# Altium footprint library KN2CLib.PcbLib: 142 footprints (part 6 of 9)
Each footprint in its own frame and in the unit in brackets; x right, y up, seen from the top. Pads: shape width x height; smd on the part's side, far side on the other; paste and mask are expansions set on the pad; w line width, h text height; cw(c..) or ccw(c..) is an arc to the next point about the centre after c.
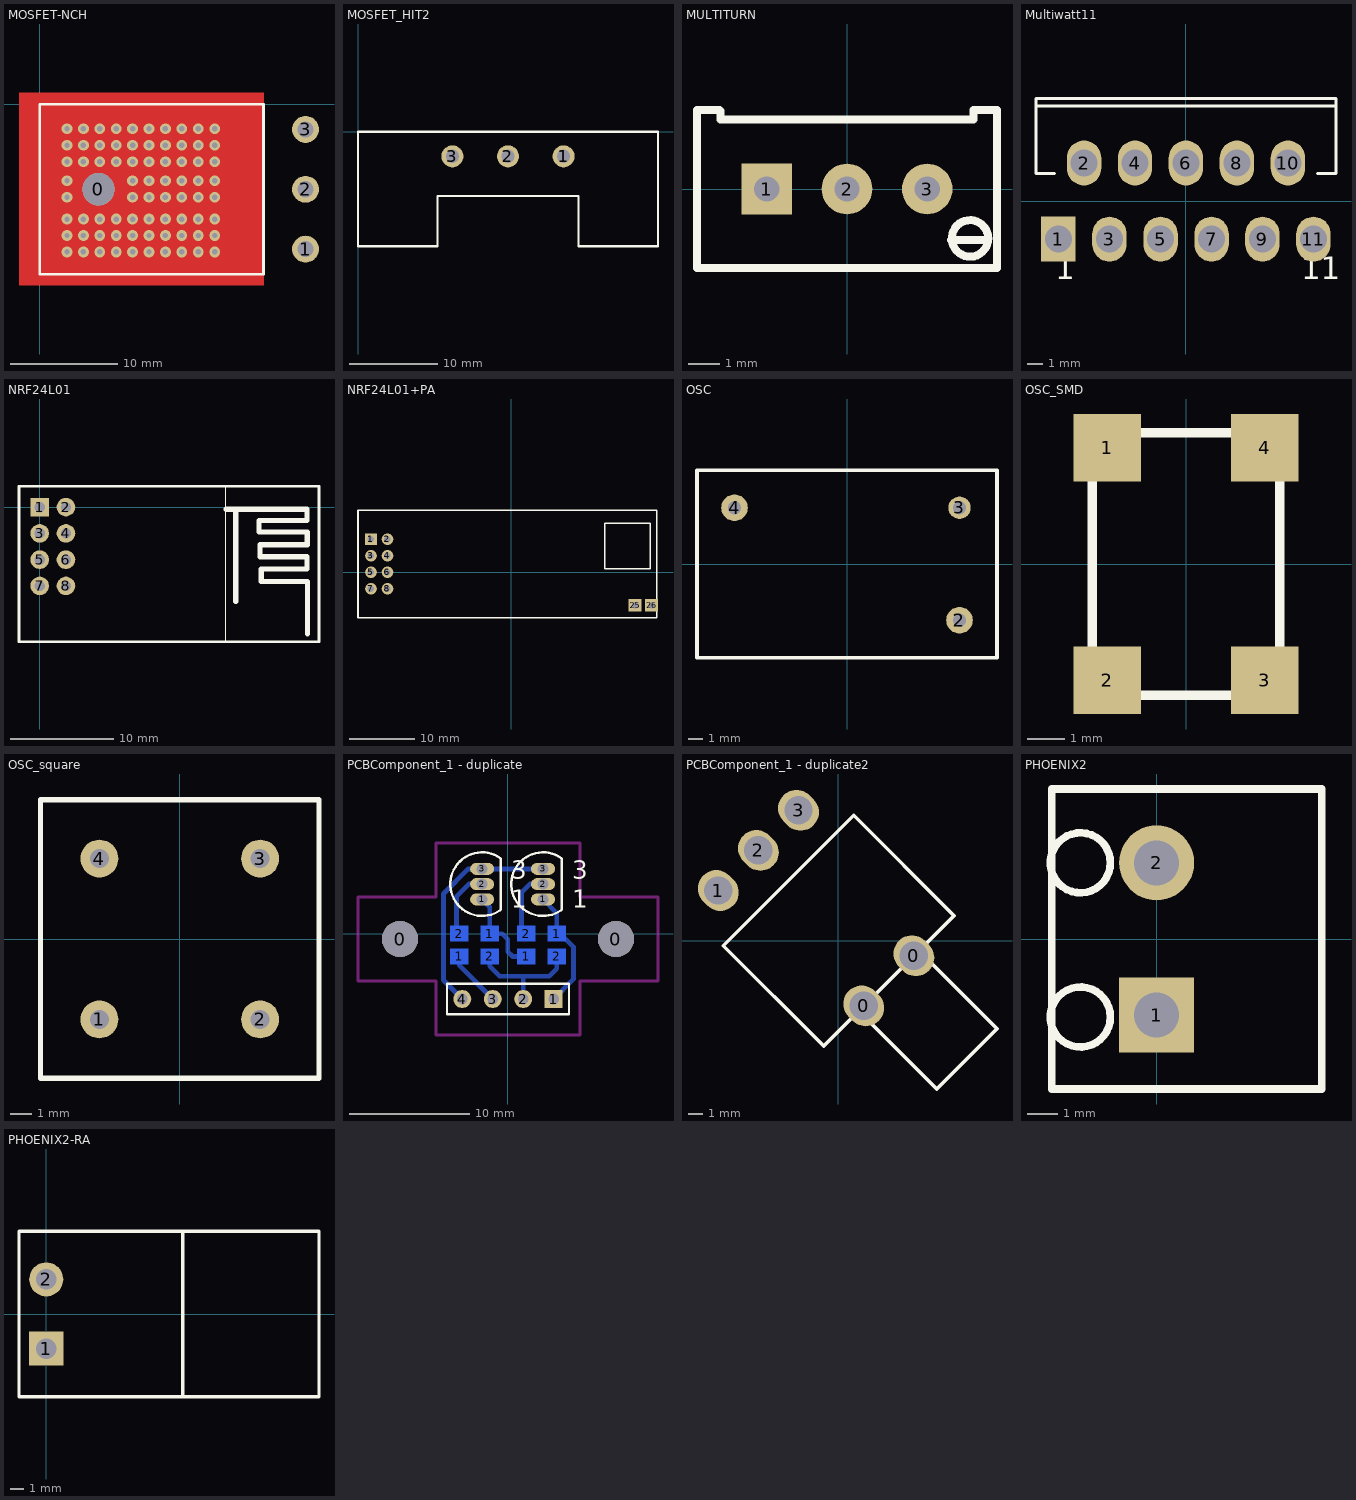
[diagram p5: the footprints below, top view; thin cyan lines are the x and y axes]

## MOSFET-NCH [mm]
pads (4):
  round 3 hole 3: 0(5.46,-7.9)
  round 2.5 hole 1.5: 1(24.7,-13.46) 2(24.7,-7.9) 3(24.7,-2.34)
via 2.54,-8.636 diameter 1 hole 0.5
via 2.54,-7.112 diameter 1 hole 0.5
via 14.732,-10.668 diameter 1 hole 0.5
via 16.256,-10.668 diameter 1 hole 0.5
via 8.636,-10.668 diameter 1 hole 0.5
via 10.16,-10.668 diameter 1 hole 0.5
via 13.208,-10.668 diameter 1 hole 0.5
via 11.684,-10.668 diameter 1 hole 0.5
via 5.588,-10.668 diameter 1 hole 0.5
via 7.112,-10.668 diameter 1 hole 0.5
via 4.064,-10.668 diameter 1 hole 0.5
via 2.54,-10.668 diameter 1 hole 0.5
via 14.732,-12.192 diameter 1 hole 0.5
via 16.256,-12.192 diameter 1 hole 0.5
via 8.636,-12.192 diameter 1 hole 0.5
via 10.16,-12.192 diameter 1 hole 0.5
via 13.208,-12.192 diameter 1 hole 0.5
via 11.684,-12.192 diameter 1 hole 0.5
via 5.588,-12.192 diameter 1 hole 0.5
via 7.112,-12.192 diameter 1 hole 0.5
via 4.064,-12.192 diameter 1 hole 0.5
via 2.54,-12.192 diameter 1 hole 0.5
via 14.732,-13.716 diameter 1 hole 0.5
via 16.256,-13.716 diameter 1 hole 0.5
via 8.636,-13.716 diameter 1 hole 0.5
via 10.16,-13.716 diameter 1 hole 0.5
via 13.208,-13.716 diameter 1 hole 0.5
via 11.684,-13.716 diameter 1 hole 0.5
via 5.588,-13.716 diameter 1 hole 0.5
via 7.112,-13.716 diameter 1 hole 0.5
via 4.064,-13.716 diameter 1 hole 0.5
via 2.54,-13.716 diameter 1 hole 0.5
via 2.54,-5.334 diameter 1 hole 0.5
via 4.064,-5.334 diameter 1 hole 0.5
via 7.112,-5.334 diameter 1 hole 0.5
via 5.588,-5.334 diameter 1 hole 0.5
via 11.684,-5.334 diameter 1 hole 0.5
via 13.208,-5.334 diameter 1 hole 0.5
via 10.16,-5.334 diameter 1 hole 0.5
via 8.636,-5.334 diameter 1 hole 0.5
via 16.256,-5.334 diameter 1 hole 0.5
via 14.732,-5.334 diameter 1 hole 0.5
via 2.54,-3.81 diameter 1 hole 0.5
via 4.064,-3.81 diameter 1 hole 0.5
via 7.112,-3.81 diameter 1 hole 0.5
via 5.588,-3.81 diameter 1 hole 0.5
via 11.684,-3.81 diameter 1 hole 0.5
via 13.208,-3.81 diameter 1 hole 0.5
via 10.16,-3.81 diameter 1 hole 0.5
via 8.636,-3.81 diameter 1 hole 0.5
via 16.256,-3.81 diameter 1 hole 0.5
via 14.732,-3.81 diameter 1 hole 0.5
via 2.54,-2.286 diameter 1 hole 0.5
via 4.064,-2.286 diameter 1 hole 0.5
via 7.112,-2.286 diameter 1 hole 0.5
via 5.588,-2.286 diameter 1 hole 0.5
via 11.684,-2.286 diameter 1 hole 0.5
via 13.208,-2.286 diameter 1 hole 0.5
via 10.16,-2.286 diameter 1 hole 0.5
via 8.636,-2.286 diameter 1 hole 0.5
via 16.256,-2.286 diameter 1 hole 0.5
via 14.732,-2.286 diameter 1 hole 0.5
via 14.732,-7.112 diameter 1 hole 0.5
via 16.256,-7.112 diameter 1 hole 0.5
via 8.636,-7.112 diameter 1 hole 0.5
via 10.16,-7.112 diameter 1 hole 0.5
via 13.208,-7.112 diameter 1 hole 0.5
via 11.684,-7.112 diameter 1 hole 0.5
via 14.732,-8.636 diameter 1 hole 0.5
via 16.256,-8.636 diameter 1 hole 0.5
via 8.636,-8.636 diameter 1 hole 0.5
via 10.16,-8.636 diameter 1 hole 0.5
via 13.208,-8.636 diameter 1 hole 0.5
via 11.684,-8.636 diameter 1 hole 0.5
Top Layer:
  rectangle: 1.27,-14.732 18.034,-1.27
  pour cut-out: 20.795,1.044 -1.915,1.044 -1.915,-16.792 20.81,-16.792 20.81,1.029
Bottom Layer:
  rectangle: 1.27,-14.732 18.034,-1.27
  pour cut-out: 0.003,-0.003 19.632,-0.003 19.632,-15.824 0,-15.824 0,-0.005
Top Overlay:
  lines w0.254: 0,-15.8 20.8,-15.8 20.8,0 0,0 0,-15.8
3D body: height 4.82, standoff 0.24, extent 0,-15.748 20.828,0

## MOSFET_HIT2 [mm]
pads (3):
  round 2.5 hole 1.5: 1(23.3,-2.8) 2(17,-2.8) 3(10.7,-2.8)
Top Overlay:
  lines w0.254: 0,-13 0,0 34,0 34,-13 25,-13 25,-7.3 9,-7.3 9,-13 0,-13

## MULTITURN [mm]
pads (3):
  rect 1.6x1.6 hole 0.8: 1(-2.54,0)
  round 1.6 hole 0.8: 2(0,0) 3(2.54,0)
Top Overlay:
  circle w0.254: c3.895,-1.565 r0.578
  lines w0.254: -4.036,2.5 -4.75,2.5 -4.75,-2.5 4.75,-2.5 4.75,2.5 4,2.5 ; -4,2.464 -4,2.2 4,2.2 4,2.493 ; 3.289,-1.615 4.422,-1.615
3D body: height 4, standoff 0, extent -4.775,-2.5 4.725,2.525

## Multiwatt11 [mm] "TO, Thru-Hole, Vertical, Heatsink Mounted; 11 Bent Staggered Leads; Pitch 1.7 mm"
height 21
pads (11):
  rect 2.3x3 hole 1.8: 1(-8.5,-2.54)
  oval 2.3x3 hole 1.8: 2(-6.8,2.54) 3(-5.1,-2.54) 4(-3.4,2.54) 5(-1.7,-2.54) 6(0,2.54) 7(1.7,-2.54) 8(3.4,2.54) 9(5.1,-2.54) 10(6.8,2.54) 11(8.5,-2.54)
Top Overlay:
  lines w0.2: -10,6.33 9.9,6.33 ; -8.754,1.83 -10,1.83 -10,6.83 10,6.83 10,1.83 8.774,1.83
  text "1" at -8.73,-5.215 h1.5
  text "11" at 7.67,-5.215 h1.5
3D body: height 4, standoff 0, extent -10,-0.225 10,6.85

## NRF24L01 [mm]
pads (8):
  rect 1.8x1.8 hole 1: 1(0,0)
  round 1.8 hole 1: 2(2.54,0) 3(0,-2.54) 4(2.54,-2.54) 5(0,-5.08) 6(2.54,-5.08) 7(0,-7.62) 8(2.54,-7.62)
Top Overlay:
  lines w0.1: 18,-13 18,2
  lines w0.254: -2,-13 27,-13 27,2 -2,2 -2,-13
  lines w0.5: 18.034,-0.203 25.832,-0.203 25.832,-1.295 21.209,-1.295 21.209,-2.413 25.857,-2.413 25.857,-3.632 21.311,-3.632 21.311,-4.801 25.832,-4.801 25.832,-5.994 21.412,-5.994 21.412,-7.188 25.883,-7.188 25.883,-12.243 ; 18.948,-9.119 18.948,-0.356

## NRF24L01+PA [mm]
pads (10):
  rect 1.8x1.8 hole 1: 1(-21.59,5.08)
  round 1.8 hole 1: 2(-19.05,5.08) 3(-21.59,2.54) 4(-19.05,2.54) 5(-21.59,0) 6(-19.05,0) 7(-21.59,-2.54) 8(-19.05,-2.54)
  rect 2x2 hole 1: 25(19.05,-5.08) 26(21.59,-5.08)
Top Overlay:
  lines w0.254: -23.59,-6.98 22.41,-6.98 22.41,9.52 -23.59,9.52 -23.59,-6.98 ; 14.41,0.52 14.41,7.52 21.41,7.52 21.41,0.52 14.41,0.52

## OSC [mm]
pads (4):
  round 0 all layers, no hole: 1(-7.62,-3.81)
  round 1.8 hole 0.9: 2(7.62,-3.81) 4(-7.62,3.81)
  round 1.524 hole 0.9: 3(7.62,3.81)
Top Overlay:
  lines w0.254: -10.16,-6.35 -10.16,6.35 10.16,6.35 10.16,-0.102 10.16,-6.35 -10.16,-6.35

## OSC_SMD [mm]
pads (4):
  rect 1.8x1.8 smd: 1(-2.1,3.1) 2(-2.1,-3.1) 3(2.1,-3.1) 4(2.1,3.1)
Top Overlay:
  lines w0.254: -2.5,-3.5 -2.5,3.5 2.5,3.5 2.5,-3.5 -2.5,-3.5

## OSC_square [mm]
pads (5):
  round 0 all layers, no hole: 1(-7.62,-3.81)
  round 1.8 hole 0.9: 1(-3.81,-3.81) 2(3.81,-3.81) 3(3.81,3.81) 4(-3.81,3.81)
Top Overlay:
  lines w0.254: -6.6,-6.6 -6.6,6.6 6.6,6.6 6.6,-6.6 -6.6,-6.6

## PCBComponent_1 [mm]

## PCBComponent_1 - duplicate [mm]
pads (20):
  round 3 hole 3: 0(-9,-0.421) 0(9,-0.421)
  rect 1.5x1.3 smd far side: 1(-4.064,-1.879) 1(-1.524,0.021) 1(1.524,-1.879) 1(4.064,0.021) 2(-4.064,0.021) 2(-1.524,-1.879) 2(1.524,0.021) 2(4.064,-1.879)
  oval 2x1 hole 0.9: 1(-2.159,2.881) 1(2.921,2.881) 2(-2.159,4.151) 2(2.921,4.151) 3(-2.159,5.421) 3(2.921,5.421)
  rect 1.5x1.5 hole 0.9: 1(3.81,-5.421)
  round 1.5 hole 0.9: 2(1.27,-5.421) 3(-1.27,-5.421) 4(-3.81,-5.421)
Bottom Layer:
  lines w0.4: -4.064,-1.879 -4.064,-2.627 -1.27,-5.421 ; -3.81,-5.421 -5.375,-3.856 -5.375,3.354 -3.308,5.421 -2.159,5.421 2.921,5.421 ; -3.81,0.021 -3.937,0.148 -4.3,0.511 -4.3,3.104 -3.253,4.151 -2.159,4.151 ; -2.159,2.881 -1.524,2.246 -1.524,0.021 -0.492,0.021 -0.025,-0.446 -0.025,-1.471 0.383,-1.879 1.524,-1.879 ; -1.524,-1.879 -1.524,-2.697 -0.7,-3.521 1.3,-3.521 ; 1.27,-5.421 1.27,-3.551 1.3,-3.521 ; 1.524,0.021 1.12,0.425 1.12,3.449 1.822,4.151 2.921,4.151 ; 2.921,2.881 4.064,1.738 4.064,0.021 4.358,0.021 5.45,-1.071 5.45,-3.781 3.81,-5.421 ; 4.064,-1.879 4.064,-2.882 3.425,-3.521 1.3,-3.521
Top Overlay:
  lines w0.2: -0.639,1.98 cw(c-2.159,4.151) -0.639,6.322 ; -0.609,2.051 -0.609,6.251 ; 4.441,1.98 cw(c2.921,4.151) 4.441,6.322 ; 4.471,2.051 4.471,6.251 ; -5.08,-6.691 5.08,-6.691 5.08,-4.151 -5.08,-4.151 -5.08,-6.691
  text "1" at 5.342,2.172 h1.5
  text "3" at 5.342,4.618 h1.5
  text "1" at 0.262,2.172 h1.5
  text "3" at 0.262,4.618 h1.5
Keep-Out Layer:
  lines w0.254: -12.5,-3.921 -6,-3.921 -6,-8.421 6,-8.421 6,-3.921 12.5,-3.921 12.5,3.079 6,3.079 6,7.579 -6,7.579 -6,3.079 -12.5,3.079 -12.5,-3.921

## PCBComponent_1 - duplicate1 [mm]

## PCBComponent_1 - duplicate2 [mm]
pads (5):
  oval 3x2.6 hole 2 rot 135: 0(1.811,-4.589) 0(5.347,-1.054) 1(-8.442,3.542) 2(-5.613,6.371) 3(-2.785,9.199)
Top Overlay:
  lines w0.254: 1.458,-4.943 6.962,-10.447 11.205,-6.205 5.7,-0.7 ; -8.088,-0.347 -1.017,-7.418 8.175,1.775 1.104,8.846 -8.088,-0.347
3D body: height 8, standoff 0, extent -8.07,-10.206 11.247,8.81

## PCBComponent_1 - duplicate3 [mm]

## PHOENIX2 [mm]
pads (2):
  rect 2.5x2.5 hole 1.5: 1(0,-2.54)
  round 2.5 hole 1.5: 2(0,2.54)
Top Overlay:
  circle w0.254: c-2.54,-2.6 r1
  circle w0.254: c-2.54,2.54 r1
  lines w0.254: -3.5,-5 5.5,-5 5.5,5 -3.5,5 -3.5,-5
3D body: height 8.6, standoff 0, extent -3.5,-5.013 5.475,4.975

## PHOENIX2-RA [mm]
pads (2):
  rect 2.5x2.5 hole 1.5: 1(0,-2.54)
  round 2.5 hole 1.5: 2(0,2.54)
Top Overlay:
  lines w0.254: 10,-6.08 10,6.08 ; -2,-6.08 -2,6.08 20,6.08 20,-6.08 -2,-6.08
3D body: height 15, standoff 0, extent 10.008,-6.045 19.964,6.096
3D body: height 8.6, standoff 0, extent -1.981,-6.071 10.008,6.096